# EAGLE library part PREM (library glitchworks)
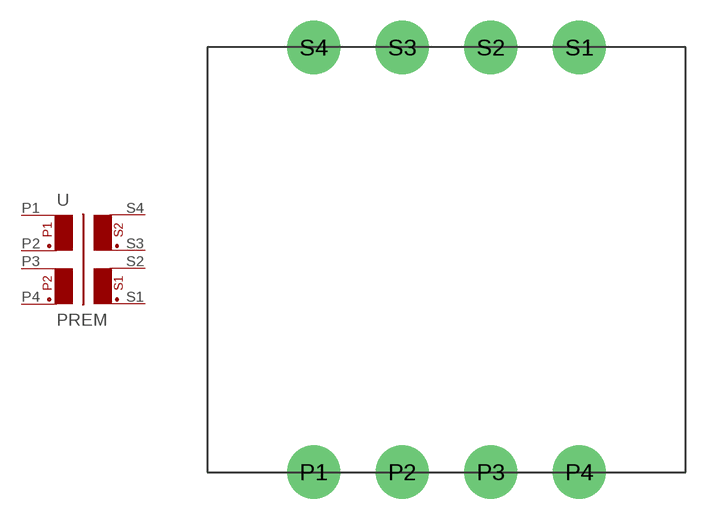
[diagram p0: symbol with the pads of PREM-2P2S; footprint PREM-2P2S]

Designator prefix -

## PREM  [PREM-2P2S]
P1  P1  pas
P2  P2  pas
P3  P3  pas
P4  P4  pas
S1  S1  pas
S2  S2  pas
S3  S3  pas
S4  S4  pas

## Footprint PREM-2P2S (pad centres in mm)
drill 1.3 pad 3.81: P1 7.62,0; P2 13.97,0; P3 20.32,0; P4 26.67,0; S1 26.67,30.48; S2 20.32,30.48; S3 13.97,30.48; S4 7.62,30.48